# Altium schematic symbol library 0805 0.01R.Schlib: 1 symbol
Pins are listed as number, name and electrical type; pins without a type are passive.

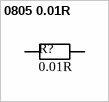
[diagram p0: symbol 0805 0.01R]

## 0805 0.01R
designator R?, comment value 0.01R  (hidden comment: Resistor)
0.01Ω ±1% 1/8W ±800ppm/°C 0805 Low Resistors & Current Sense Resistors - Surface Mount RoHS; LCSC Part #: C127699; ComponentLink1Description: LCSC - UNI-ROYAL(Uniroyal Elec) 0805W8F100MT5E; ComponentLink1URL: https://lcsc.com/product-detail/Low-Resistors-Current-Sense-Resistors-Surface-Mount_Uniroyal-Elec-0805W8F100MT5E_C127699.html/?href=jlc-SMT; JLCPCB Part Type: Extended
footprint RES 0805_2012 (Chip Resistor, 2-Leads, Body 2.00x1.25mm, IPC Medium Density)
pins: 1, 2